# EAGLE library part STM8S103F3U6TR (library Microcontroller)
IC MCU 8BIT 8KB FLASH 20UFQFN Manufacturer's datasheet <https://www.st.com/content/ccc/resource/technical/document/datasheet/ce/13/13/03/a9/a4/42/8f/CD00226640.pdf/files/CD00226640.pdf/jcr:content/translations/en.CD00226640.pdf>
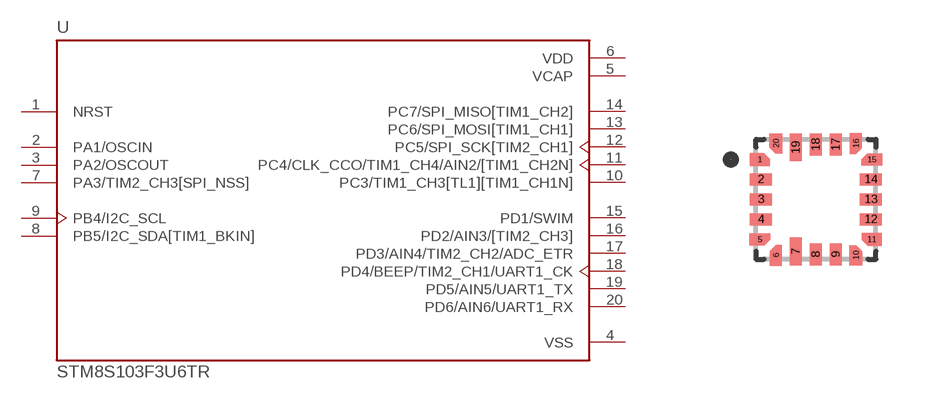
[diagram p4: symbol with the pads of UFQFN20; footprint UFQFN20]

Designator prefix U

## STM8S103F3U6TR (CREATED_BY: PCBLayout.com; DIGIKEY_PARTNO: 497-19027-6-ND; MANUFACTURER: STMicroelectronics; MPN: STM8S103F3U6TR; PACKAGE: UFQFN20)  [UFQFN20]
1  NRST
2  PA1/OSCIN
3  PA2/OSCOUT
4  VSS  pwr
5  VCAP  pwr
6  VDD  pwr
7  PA3/TIM2_CH3[SPI_NSS]
8  PB5/I2C_SDA[TIM1_BKIN]
9  PB4/I2C_SCL
10  PC3/TIM1_CH3[TL1][TIM1_CH1N]
11  PC4/CLK_CCO/TIM1_CH4/AIN2/[TIM1_CH2N]
12  PC5/SPI_SCK[TIM2_CH1]
13  PC6/SPI_MOSI[TIM1_CH1]
14  PC7/SPI_MISO[TIM1_CH2]
15  PD1/SWIM
16  PD2/AIN3/[TIM2_CH3]
17  PD3/AIN4/TIM2_CH2/ADC_ETR
18  PD4/BEEP/TIM2_CH1/UART1_CK
19  PD5/AIN5/UART1_TX
20  PD6/AIN6/UART1_RX

## Footprint UFQFN20 (pad centres in mm)
smd 0.1 x 0.1: 1 -1.4,1; 5 -1.4,-1; 6 -1,-1.4; 10 1,-1.4; 11 1.4,-1; 15 1.4,1; 16 1,1.4; 20 -1,1.4
smd 0.55 x 0.3: 2 -1.375,0.5; 3 -1.375,0; 4 -1.375,-0.5; 12 1.375,-0.5; 13 1.375,0; 14 1.375,0.5
smd 0.3 x 0.7: 7 -0.5,-1.3; 19 -0.5,1.3
smd 0.3 x 0.55: 8 0,-1.375; 9 0.5,-1.375; 17 0.5,1.375; 18 0,1.375